# Altium integrated library TPS62172DSGT.IntLib: 1 symbol
Pins are listed as number, name and electrical type; pins without a type are passive.

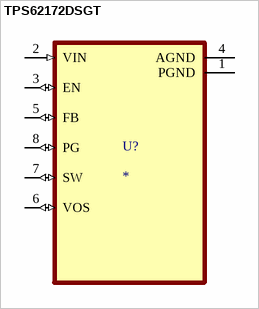
[diagram p0: symbol TPS62172DSGT]

## TPS62172DSGT
designator U?
Buck Switching Regulator IC Positive Fixed 3.3V 1 Output 500mA 8-WFDFN Exposed Pad; MF: Texas Instruments; MP: TPS62172DSG; SnapEDA_Link: https://www.snapeda.com/parts/TPS62172DSG/Texas+Instruments/view-part/?ref=snap; Package: WSON-8 Texas Instruments; Value: *; Check_prices: https://www.snapeda.com/parts/TPS62172DSG/Texas+Instruments/view-part/?ref=eda
footprint SON50P200X200X80-9N
pins: 1 PGND (power), 2 VIN (in), 3 EN (io), 4 AGND (power), 5 FB (io), 6 VOS (io), 7 SW (io), 8 PG (io)